# EAGLE library part 503398-1892 (library SamacSys_Parts)
MicroSD SMT Push-Push 1.28mm height MicroSD SMT Push-Push 1.28mm height Source: Datasheet <http://www.molex.com/webdocs/datasheets/pdf/en-us//5033981892_MEMORY_CARD_SOCKET.pdf>
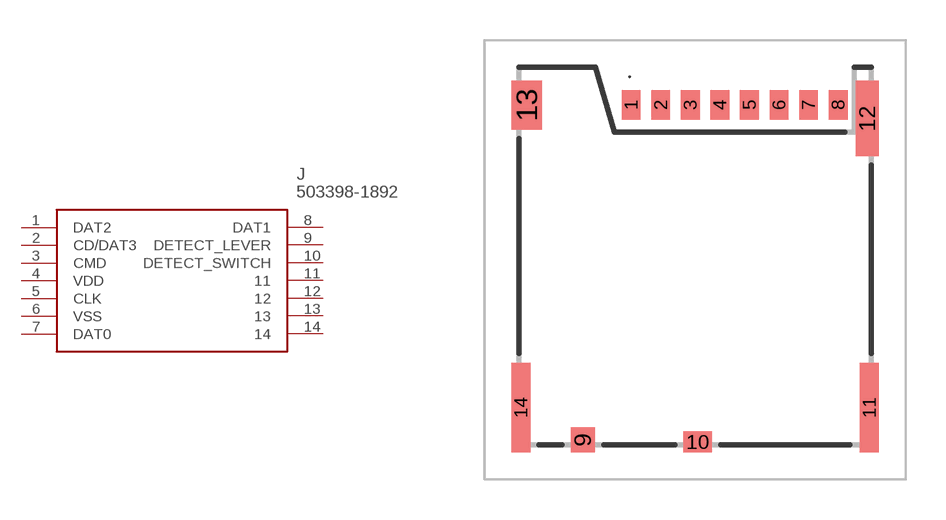
[diagram p171: symbol with the pads of 5033981892; footprint 5033981892]

Designator prefix J

## 503398-1892 (DESCRIPTION: MicroSD SMT Push-Push 1.28mm height MicroSD SMT Push-Push 1.28mm height; HEIGHT: 1.28mm; MANUFACTURER_NAME: Molex; MANUFACTURER_PART_NUMBER: 503398-1892; MOUSER_PART_NUMBER: 538-503398-1892; MOUSER_PRICE-STOCK: https://www.mouser.co.uk/ProductDetail/Molex/503398-1892?qs=b0v8CoHHvSMxV%252BW12iKaSg%3D%3D)  [5033981892]
1  DAT2
2  CD/DAT3
3  CMD
4  VDD
5  CLK
6  VSS
7  DAT0
8  DAT1
9  DETECT_LEVER
10  DETECT_SWITCH
11  11
12  12
13  13
14  14

## Footprint 5033981892 (pad centres in mm)
503398-1892
smd 0.7 x 1.1: 1 4.17,-1.4; 2 5.27,-1.4; 3 6.37,-1.4; 4 7.47,-1.4; 5 8.57,-1.4; 6 9.67,-1.4; 7 10.77,-1.4; 8 11.87,-1.4
smd 0.9 x 0.93: 9 2.38,-13.865
smd 1.05 x 0.78: 10 6.645,-13.94
smd 0.7 x 3.33: 11 13.03,-12.665; 14 0.07,-12.665
smd 0.86 x 2.8: 12 12.95,-1.9
smd 1.14 x 1.83: 13 0.29,-1.415